# Altium schematic symbol library CL32B106KBVVPLE.SchLib: 1 symbol
Pins are listed as number, name and electrical type; pins without a type are passive.

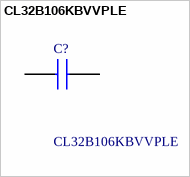
[diagram p0: symbol CL32B106KBVVPLE]

## CL32B106KBVVPLE
designator C?
Multilayer Ceramic Capacitors MLCC - SMD/SMT 10uF X7R 50V 1210 Auto grade; Manufacturer_Name: SAMSUNG; Geometry.Height: 2.85mm; Mouser Part Number: 187-CL32B106KBVVPLE; Mouser Price/Stock: https://www.mouser.co.uk/ProductDetail/Samsung-Electro-Mechanics/CL32B106KBVVPLE?qs=HoCaDK9Nz5f6XiYpd2vY%2FA%3D%3D; Manufacturer_Part_Number: CL32B106KBVVPLE; Datasheet Link: https://product.samsungsem.com/mlcc/CL32B106KBVVPL.do
footprint CAPC3225X285N
pins: 1, 2